# Altium schematic symbol library GENERIC_CX.SchLib: 1 symbol
Pins are listed as number, name and electrical type; pins without a type are passive.

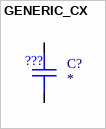
[diagram p0: symbol GENERIC_CX]

## GENERIC_CX
designator C?
pins: 1, 2
text: ???